# EAGLE library part EXB-N8V101JX (library LoRa Gateway)
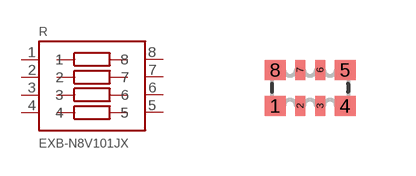
[diagram p3: symbol with the pads of EXB28V; footprint EXB28V]

Designator prefix R

## EXB-N8V101JX  [EXB28V]
1  1
2  2
3  3
4  4
5  5
6  6
7  7
8  8

## Footprint EXB28V (pad centres in mm)
Chip Resistor Array 0402x4 4 resistors in 2.0 mm x 1.0 mm size Source: PANASONIC .. aoc0000ce1.pdf
smd 0.525 x 0.5: 1 -0.875,-0.45; 4 0.875,-0.45; 5 0.875,0.45; 8 -0.875,0.45
smd 0.25 x 0.5: 2 -0.25,-0.45; 3 0.25,-0.45; 6 0.25,0.45; 7 -0.25,0.45